# Altium schematic symbol library STM32_PLC.SCHLIB: 189 symbols (part 2 of 4)
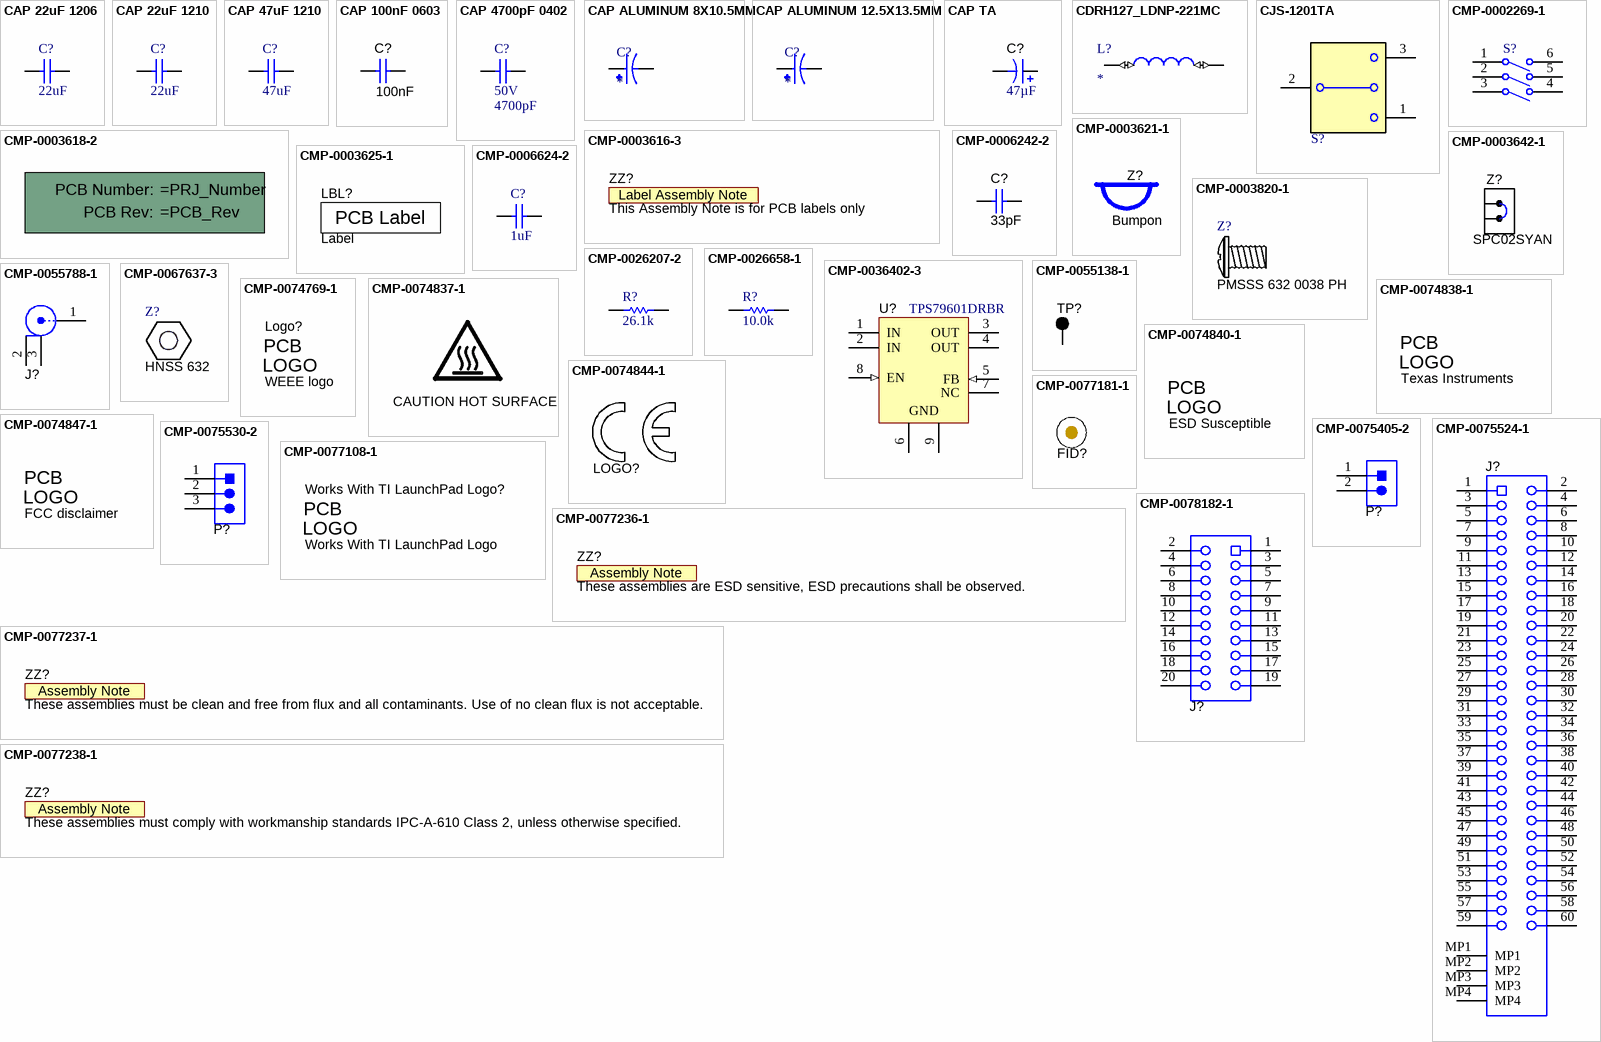
[diagram p6: symbols CAP 22uF 1206 to CMP-0078182-1]

## CMP-0006242-2
designator C?, comment ValueDisplayed: 33pF  (hidden comment: C0402C330J5GAC)
CAP, CERM, 33 pF, 50 V, +/- 5%, C0G/NP0, 0402; Manufacturer: Kemet; TaMin_C: -55°C; Polarized: N; SizeAreaWB_mm2: 3; Value1: Unknown; U/M: EA; Value: 33pF; TaMax_C: 125°C; SizeZ_mm: 0.6; SizeX_mm: 1; SizeY_mm: 0.5; Cap_Case: 0402; Value2: 50V; CompType: Capacitor; AEC Category: Q200; Supplier Part Number 2: 3019196; Publisher: Texas Instruments; Supplier 2: Farnell; TempCo: C0G/NP0; Published: 2008-06-19; RoHS: Y; MountType: SMT; Supplier 1: Digi-Key; PackageReference: 0402; Tolerance_%: 5%; SizeArea_mm2: 0.5; LatestRevisionDate: 2017-03-09; PartNumber: C0402C330J5GAC; AEC Qualified: ?; Cap_F: 33pF; VDC_V: 50V; ComponentLink1Description: Datasheet link; Supplier Part Number 1: 399-1017-1-ND; Technology: Ceramic; ComponentLink1URL: http://www.kemet.com/kemet/web/homepage/kechome.nsf/vapubfiles/F3102_Y5V.pdf/$file/F3102_Y5V.pdf
footprint 0402 (0402 from SM-752 data)
footprint 0402S (Based on C0402S footprint from PADS legacy)
footprint 0402L (0402 from SM-752 data)
footprint 0402M (0402 from SM-752 data)
pins: 1, 2

## CMP-0006624-2
designator C?, comment ValueDisplayed: 1uF  (hidden comment: GRM155R70J105MA12D)
CAP, CERM, 1 uF, 6.3 V, +/- 20%, X7R, 0402; Manufacturer: MuRata; TaMin_C: -55°C; Polarized: N; SizeAreaWB_mm2: 3; Value1: Unknown; U/M: EA; Value: 1uF; TaMax_C: 125°C; SizeZ_mm: 0.6; SizeX_mm: 1; SizeY_mm: 0.5; Cap_Case: 0402; Value2: 6.3V; CompType: Capacitor; Cap_F: 1µF; AEC Category: Q200; Supplier Part Number 2: 81-GRM155R70J105MA2D; Publisher: Texas Instruments; Supplier 2: Mouser; TempCo: X7R; Published: 2008-06-19; RoHS: Y; MountType: SMT; Supplier 1: Digi-Key; PackageReference: 0402; Tolerance_%: 20%; SizeArea_mm2: 0.5; LatestRevisionDate: 2017-03-09; PartNumber: GRM155R70J105MA12D; AEC Qualified: N; VDC_V: 6.3V; ComponentLink1Description: Datasheet link; AEC Grade: N/A; Supplier Part Number 1: 490-9665-1-ND; Technology: Ceramic; ComponentLink1URL: http://psearch.en.murata.com/capacitor/product/GRM155R70J105MA12%23.pdf
footprint 0402 (0402 from SM-752 data)
footprint 0402S (Based on C0402S footprint from PADS legacy)
footprint 0402L (0402 from SM-752 data)
footprint 0402M (0402 from SM-752 data)
pins: 1, 2

## CMP-0026207-2
designator R?, comment ValueDisplayed: 26.1k  (hidden comment: CRCW040226K1FKED)
RES, 26.1 k, 1%, 0.063 W, AEC-Q200 Grade 0, 0402; Manufacturer: Vishay-Dale; Power_W: 63mW; TempCo: 100 ppm/C; Value_Code: 26k1; Value: 26.1k; EIA_Code: E96; SizeX_mm: 1; SizeY_mm: 0.5; SizeZ_mm: 0.6; Value2: 0.063W; CompType: Resistor; AEC Qualified: Y; VDC_V: 50V; AEC Category: Q200; AEC Grade: 0; ComponentLink1URL: http://www.vishay.com/docs/20035/dcrcwe3.pdf; Supplier Part Number 2: 52K6896; Supplier 2: Newark; Supplier Part Number 3: 71-CRCW0402-26.1K-E3; Supplier 3: Mouser; RoHS: E; Value1: 1%; MountType: SMT; Supplier 1: Digi-Key; PackageReference: 0402; Tolerance_%: 1%; Res_ohm: 26.1k; SizeArea_mm2: 0.5; PartNumber: CRCW040226K1FKED; ComponentLink1Description: Datasheet link; Supplier Part Number 1: 541-26.1KLCT-ND; Technology: Thick Film
footprint 0402 (0402 from SM-752 data)
footprint 0402S (Based on C0402S footprint from PADS legacy)
footprint 0402L (0402 from SM-752 data)
footprint 0402M (0402 from SM-752 data)
pins: 1, 2

## CMP-0026658-1
designator R?, comment ValueDisplayed: 10.0k  (hidden comment: ERJ-2RKF1002X)
RES, 10.0 k, 1%, 0.1 W, 0402; Manufacturer: Panasonic; Power_W: 100mW; TempCo: 100 ppm/C; Value_Code: 10k0; U/M: EA; Value: 10.0k; EIA_Code: E96; Res_ohm: 10k; SizeX_mm: 1; SizeY_mm: 0.5; SizeZ_mm: 0.6; Value2: 0.1W; CompType: Resistor; VDC_V: 50V; AEC Category: Q200; ComponentLink1URL: http://industrial.panasonic.com/www-data/pdf/AOA0000/AOA0000CE2.pdf; Supplier Part Number 2: 90W2949; Publisher: Texas Instruments; Supplier 2: Newark; Supplier Part Number 3: 667-ERJ-2RKF1002X; Supplier 3: Mouser; Published: 2008-06-26; RoHS: Y; Value1: 1%; MountType: SMT; Supplier 1: Digi-Key; PackageReference: 0402; Tolerance_%: 1%; SizeArea_mm2: 0.5; LatestRevisionDate: 2017-03-09; PartNumber: ERJ-2RKF1002X; AEC Qualified: ?; ComponentLink1Description: Datasheet link; Supplier Part Number 1: P10.0KLCT-ND; Technology: Thick Film
footprint 0402 (0402 from SM-752 data)
footprint 0402S (Based on C0402S footprint from PADS legacy)
footprint 0402L (0402 from SM-752 data)
footprint 0402M (0402 from SM-752 data)
pins: 1, 2

## CMP-0036402-3
designator U?, comment TPS79601DRBR
Single Output High PSRR LDO, 1 A, Adjustable 1.2 to 5.5 V Output, 2.7 to 5.5 V Input, 8-pin SON (DRB), -40 to 125 degC, Green (RoHS & no Sb/Br); Manufacturer: Texas Instruments; Vin(Min)(V): 2.7; Vout Adj(Max)(V): 5.5; Vout Adj(Min)(V): 1.2; Accuracy(%): 2; SubFamily: Single Channel LDO; Iq(Typ)(mA): 0.26; Vdo(Typ)(mV): 250; Iout(Max)(A): 1; AEC Category: Q200; AEC Qualified: N; CompType: IC; SizeArea_mm2: 9.0; SizeAreaWB_mm2: 16.0; SizeX_mm: 3.0; SizeZ_mm: 1.0; ComponentLink1URL: http://www.ti.com/; Vin(Max)(V): 5.5; PackageDescription: VSON-8; ComponentLink2URL: http://www.ti.com/general/docs/lit/getliterature.tsp?genericPartNumber=TPS79601&fileType=pdf; ComponentLink3Description: Package Specification; Eco-Plan: Green (RoHS & no Sb/Br); ComponentLink2Description: Datasheet; ComponentLink3URL: http://www.ti.com/litv/pdf/mpds118h; PackageReference: DRB0008B; DatasheetVersion: SLVS351N; PartNumber: TPS79601DRBR; PackageVersion: 4203482-2/K; ComponentLink1Description: Manufacturer URL; MountType: SMT; RoHS: Y; SizeY_mm: 3.0
footprint DRB0008B (SON, 8-Leads, Body 3x3mm, Pitch 0.65mm, Thermal Pad 2.4x1.65mm, TI Recommended)
pins: 1 IN (power) "Unregulated input to the device.", 2 IN (power) "Unregulated input to the device.", 3 OUT (power) "Output of the regulator.", 4 OUT (power) "Output of the regulator.", 5 FB (in) "This terminal is the feedback input voltage for the adjustable device.", 6 GND (power) "Regulator ground", 7 NC, 8 EN (in) "Driving the enable pin (EN) high turns on the regulator. Driving this pin low puts the regulator into shutdown mode. EN can be connected to IN if not used.", 9 GND (power) "Regulator ground"

## CMP-0055138-1
designator TP?, comment 5001  (value not drawn)
Test Point, Miniature, Black, TH; Manufacturer: Keystone; CNHeader: FALSE; Green_Lifecycle: Active; Green_REACh: Passed; ContactFinish: Silver; CT: TRUE; ComponentLink1URL: http://www.keyelco.com/userAssets/file/M60-2p60.pdf; Supplier Part Number 2: 534-5001; Publisher: Texas Instruments; Supplier 2: Mouser; Color: Black; RoHS: Y; MountType: TH; Green_EU RoHS-2: Incomplete; Supplier 1: Digi-Key; Green_EU RoHS: Passed; PackageReference: Black Miniature Testpoint; CompType: Test Point; LatestRevisionDate: 26/05/2017; PartNumber: 5001; ComponentLink1Description: Datasheet URL; Supplier Part Number 1: 36-5001-ND
footprint Keystone5001 (For Keystone 500x miniature loop terminals)
pins: 1

## CMP-0055788-1
designator J?, comment 128-0711-201  (value not drawn)
UMC Straight Jack Receptacle, 50 Ohm, Gold, SMT; Manufacturer: Cinch Connectivity; CNHeader: FALSE; Gender: Female; ComponentLink1URL: https://cinchconnectivity.com/OA_MEDIA/catalog/pdf_UMCCatalogcatalog.pdf; Supplier Part Number 2: 99M0460; Publisher: Texas Instruments; Supplier 2: Newark; Supplier Part Number 3: 530-1280711201; Supplier 3: Mouser; RoHS: Y; MountType: SMT; Supplier 1: Digi-Key; PackageReference: UMC Straight Jack Receptacle, SMT; PinCount: 3; CompType: Jack; LatestRevisionDate: 26/05/2017; PartNumber: 128-0711-201; Orientation: Vertical; ComponentLink1Description: Datasheet URL; Supplier Part Number 1: J983CT-ND; ContactFinish: Gold; CT: FALSE
footprint Johnson_128-0711-201 (UMC Straight Jack Receptacle, 50 Ohm, SMT)
pins: 1, 2, 3

## CMP-0067637-3
designator Z?, comment HNSS 632  (mechanical)
Nut, Hex, 5/16", Stainless Steel, 6-32; Manufacturer: B&F Fastener Supply; ComponentLink1URL: http://www.fasnetdirect.com/refguide/Nutshexmachine.pdf; Supplier 1: Digi-Key; CompType: Nut; PackageReference: Hex Nut; RoHS: Y; Supplier Part Number 1: H725-ND; MountType: N/A; PartNumber: HNSS 632; ComponentLink1Description: Datasheet Link
footprint B-F_HNSS-632 (Hex nut)

## CMP-0074769-1
designator Logo?, comment WEEE logo  (no BOM)
Library Reference: WEEE logo; Lib Reference: WEEE logo; PartNumber: WEEE logo
footprint WEEE_Minimum (WEEElie bin)
text: PCB; LOGO

## CMP-0074837-1
designator CAUTION HOT SURFACE?, comment CAUTION HOT SURFACE  (no BOM)
IEC 61010-1 Hot Surface Warning; Library Reference: IEC_HotSurface; SymbolCreator: a0412235; Publisher: Texas Instruments; SymbolVersion: 2011-08-22; Published: 2009-03-03; Lib Reference: IEC_HotSurface; LatestRevisionDate: 2017-07-06; PartNumber: CAUTION HOT SURFACE
footprint IEC_HotSurface_Large
footprint IEC_HotSurface_Small
footprint IEC_HotSurface_Medium

## CMP-0074838-1
designator Logo?, comment Texas Instruments  (no BOM)
Texas Instrument Corporate Signature; SymbolCreator: a0412235; Lib Reference: TI_Logo; Library Reference: Logo; SymbolVersion: 2011-08-22; Published: 2009-03-03; Publisher: Texas Instruments; ClassName: Logo; LatestRevisionDate: 2017-07-06; PartNumber: Texas Instruments
footprint TI_Horizontal_Overlay_Medium
footprint TI_Horizontal_Overlay_Small
footprint TI_Stacked_SolderMask_Small
footprint TI_Stacked_SolderMask_Small_Vertical
footprint TI_Symbol_Overlay_Medium
footprint TI_Symbol_Overlay_Small
footprint TI_Symbol_SolderMask_Medium
footprint TI_Symbol_SolderMask_Small
footprint TI_Horizontal_SolderMask_Medium
footprint TI_Horizontal_SolderMask_Small
footprint TI_Stacked_Overlay_Medium
footprint TI_Stacked_Overlay_Medium_Vertical
footprint TI_Stacked_Overlay_Small
footprint TI_Stacked_Overlay_Small_Vertical
footprint TI_Stacked_SolderMask_Medium
footprint TI_Stacked_SolderMask_Medium_Vertical
text: PCB; LOGO

## CMP-0074840-1
designator ESD Susceptible?, comment ESD Susceptible  (no BOM)
ESD Susceptible Symbol; Library Reference: Logo; SymbolCreator: a0412235; Lib Reference: ESD_Susceptible; Publisher: Texas Instruments; SymbolVersion: 2011-08-22; Published: 2009-03-03; LatestRevisionDate: 2017-07-06; PartNumber: ESD Susceptible
footprint ESD_Overlay_Large
footprint ESD_Overlay_Small
footprint ESD_Overlay_Medium
text: PCB; LOGO

## CMP-0074844-1
designator LOGO?, comment CE Mark  (value not drawn)  (no BOM)
SymbolCreator: a0412235; Published: 2009-03-03; Publisher: Texas Instruments; LatestRevisionDate: 2017-07-06; Lib Reference: CE Mark; PartNumber: CE Mark; Library Reference: CE Mark
footprint CE_Mark_5mm (Minimum text height for CE Mark)
footprint CE_Mark_10mm (Double the minimum text height for CE Mark)

## CMP-0074847-1
designator Logo?, comment FCC disclaimer  (no BOM)
FCC_disclaimer; Library Reference: Logo; Published: 2009-03-03; Publisher: Texas Instruments; LatestRevisionDate: 2017-07-06; Lib Reference: FCC_disclaimer; PartNumber: FCC disclaimer
footprint FCC_disclaimer
footprint FCC_disclaimer_stacked
text: PCB; LOGO

## CMP-0075405-2
designator P?, comment TSW-102-07-G-S  (value not drawn)
Header, 100mil, 2x1, Gold, TH; Manufacturer: Samtec; Pitch_mm: 2.54; Cert_VDE: N; Gender: Male; Cert_CSA: Y; Voltage_V: 550V; Green_REACh: Passed; Current_A: 6.3A; Green_Lifecycle: Active; Row_Count: 1; ComponentLink1Description: Datasheet URL; RoHS: Y; Supplier 1: Digi-Key; Cert_UL: Y; Orientation: Vertical; Green_EU RoHS: Passed; PackageReference: 2x1 Header; Color: Black; PartNumber: TSW-102-07-G-S; PinCount: 2; ContactFinish: Gold; Cert_CULUS: N; Shrouded: N; ClassName: Header; ComponentLink1URL: http://samtec.com/ftppub/pdf/TSW_TH.PDF; CompType: Header; MountType: TH; Supplier Part Number 1: SAM1029-02-ND; Green_EU RoHS-2: Passed
footprint TSW-102-07-G-S (Samtec 100mil, 1x2, 230 mil above insulator)
pins: 1, 2
1 alternate drawing of the same symbol

## CMP-0075524-1
designator J?, comment QSH-030-01-L-D-A  (value not drawn)
Receptacle, 0.5 mm, 30x2, Gold, TH; Manufacturer: Samtec; Pitch_mm: 0.5; Gender: Female; Green_REACh: Passed; CT: False; Shrouded: N; RowSpacing_mm: 5.73; Green_Lifecycle: Active; Row_Count: 2; ComponentLink1Description: Datasheet URL; RoHS: Y; Supplier Part Number 3: 1667876; Supplier 1: Digi-Key; Orientation: Vertical; Green_EU RoHS: Passed with Exemption; PackageReference: Receptacle, 0.5 mm, 30x2, TH; Color: Black; PartNumber: QSH-030-01-L-D-A; PinCount: 60; Publisher: Texas Instruments; Supplier Part Number 2: 19M9181; ContactFinish: Gold; Supplier 2: Newark; ComponentLink1URL: http://www.samtec.com/ftppub/cpdf/QSH-XXX-01-X-D-XX-MKT.pdf; LatestRevisionDate: 2017-07-12; CompType: Receptacle; CNHeader: False; MountType: SMT; Supplier Part Number 1: SAM8180-ND; Supplier 3: Farnell; Green_EU RoHS-2: Passed
footprint Samtec_QSH-030-01-X-D-A (Receptacle, 0.5 mm, 30x2, TH)
pins: 1, 2, 3, 4, 5, 6, 7, 8, 9, 10, 11, 12, 13, 14, 15, 16, 17, 18, 19, 20, 21, 22, 23, 24, 25, 26, 27, 28, 29, 30, 31, 32, 33, 34, 35, 36, 37, 38, 39, 40, 41, 42, 43, 44, 45, 46, 47, 48, 49, 50, 51, 52, 53, 54, 55, 56, 57, 58, 59, 60, MP1, MP2, MP3, MP4

## CMP-0075530-2
designator P?, comment TSW-103-07-T-S  (value not drawn)
Header, 2.54 mm, 3x1, Tin, TH; Manufacturer: Samtec; Pitch_mm: 2.54; Cert_VDE: N; Gender: Male; Cert_CSA: Y; Voltage_V: 550V; Green_REACh: Passed; Current_A: 6.3A; Green_Lifecycle: Active; Row_Count: 1; ComponentLink1Description: Datasheet URL; RoHS: Y; Supplier Part Number 3: 2035682; Supplier 1: Digi-Key; Cert_UL: Y; Orientation: Vertical; Green_EU RoHS: Passed; PackageReference: Header, 2.54 mm, 3x1, TH; Color: Black; PartNumber: TSW-103-07-T-S; PinCount: 3; Supplier Part Number 2: 12P1325; ContactFinish: Tin; Supplier 2: Newark; Cert_CULUS: N; Shrouded: N; ClassName: Header; ComponentLink1URL: http://www.samtec.com/ftppub/cpdf/TSW-XXX-XX-XXX-X-XX-XXX-MKT.pdf; CompType: Header; MountType: TH; Supplier Part Number 1: SAM1035-03-ND; Supplier 3: Farnell; Green_EU RoHS-2: Passed
footprint Samtec_TSW-103-07-T-S (Header, 2.54 mm, 3x1, TH)
pins: 1, 2, 3
3 alternate drawings of the same symbol

## CMP-0077108-1
designator Works With TI LaunchPad Logo?, comment Works With TI LaunchPad Logo  (graphical)
Publisher: Texas Instruments; LatestRevisionDate: 2017-07-28; Lib Reference: Works With TI LaunchPad; Library Reference: Logo; Published: 2009-03-03
footprint WorksWithTILaunchPad (Works With TI LaunchPad Logo)
text: PCB; LOGO

## CMP-0077181-1
designator FID?, comment Fiducial  (value not drawn)
Fiducial mark.  There is nothing to buy or mount.; CompType: Fiducial; Manufacturer: N/A; MountType: N/A; PackageReference: N/A; PartNumber: N/A; ClassName: FiducialMark; Library Reference: Fiducial
footprint Fiducial10-30
footprint Fiducial15-30
footprint Fiducial10-20
footprint Fiducial20-40
footprint Fiducial6.4-20

## CMP-0077236-1
designator ZZ?, comment These assemblies are ESD sensitive, ESD precautions shall be observed.  (no BOM)
CompType: AssemblyNote; ClassName: AssemblyNote; Publisher: Texas Instruments; LatestRevisionDate: 2017-08-10; Key: AssemblyNote
footprint AssemblyNote (Assembly Note)
text: Assembly Note

## CMP-0077237-1
designator ZZ?, comment These assemblies must be clean and free from flux and all contaminants. Use of no clean flux is not acceptable.  (no BOM)
CompType: AssemblyNote; ClassName: AssemblyNote; Publisher: Texas Instruments; LatestRevisionDate: 2017-08-10; Key: AssemblyNote
footprint AssemblyNote (Assembly Note)
text: Assembly Note

## CMP-0077238-1
designator ZZ?, comment These assemblies must comply with workmanship standards IPC-A-610 Class 2, unless otherwise specified.  (no BOM)
CompType: AssemblyNote; ClassName: AssemblyNote; Publisher: Texas Instruments; LatestRevisionDate: 2017-08-10; Key: AssemblyNote
footprint AssemblyNote (Assembly Note)
text: Assembly Note

## CMP-0078182-1
designator J?, comment SSM-110-S-DV  (value not drawn)
Receptacle, 2.54mm, 10x2, Gold with Tin tail, SMT; Manufacturer: Samtec; Pitch_mm: 2.54; Gender: Female; Cert_CSA: Y; Voltage_V: 405V; Current_A: 5.2A; Row_Count: 2; CompType: Socket Strip; ComponentLink1Description: Datasheet URL; RoHS: Y; Supplier 1: Digi-Key; Cert_UL: Y; Orientation: Vertical; PackageReference: Receptacle, 2.54mm, 10x2, SMT; Color: Black; PartNumber: SSM-110-S-DV; PinCount: 20; Supplier Part Number 2: 66H7361; ContactFinish: Gold; Supplier 2: Newark; RowSpacing_mm: 2.54; ComponentLink1URL: http://suddendocs.samtec.com/catalog_english/ssm_sm.pdf; MountType: SMT; Supplier Part Number 1: SAM1150-10-ND
footprint Samtec_SSM-110-x-DV (Receptacle, 2.54mm, 10x2, SMT)
pins: 1, 2, 3, 4, 5, 6, 7, 8, 9, 10, 11, 12, 13, 14, 15, 16, 17, 18, 19, 20

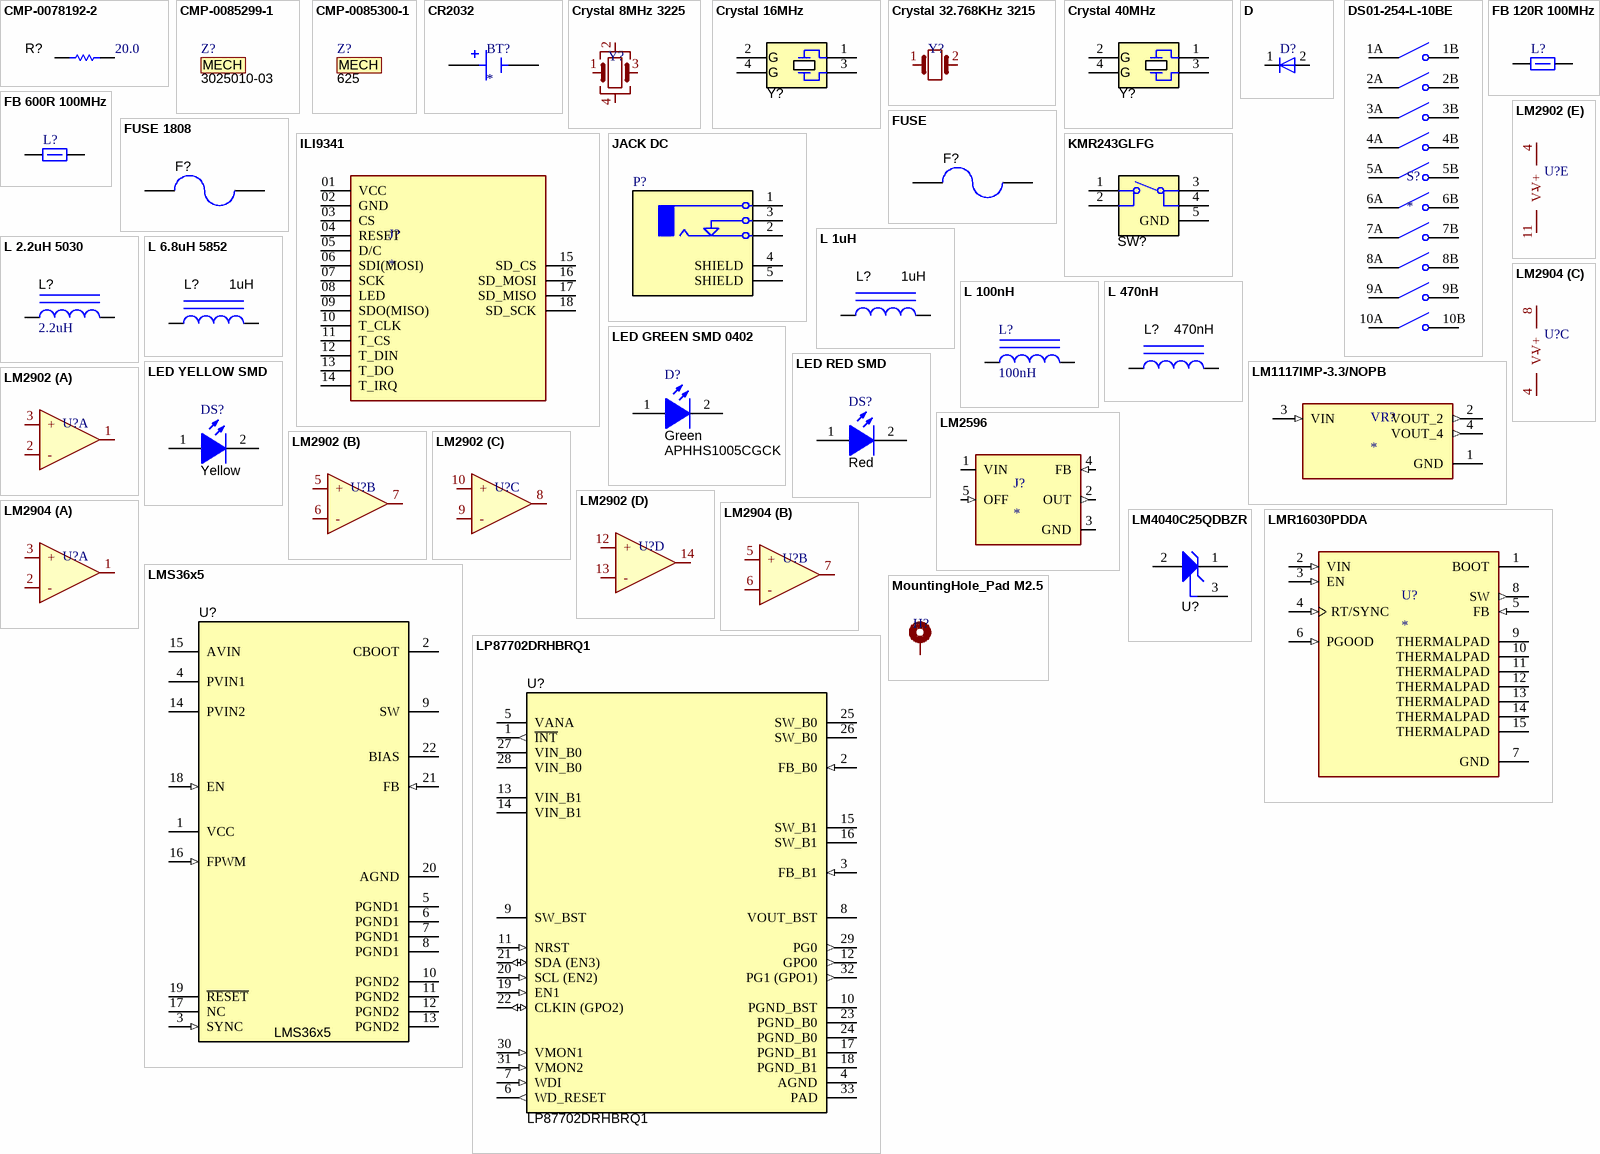
[diagram p2: symbols CMP-0078192-2 to MountingHole_Pad M2.5]

## CMP-0078192-2
designator R?, comment ValueDisplayed: 20.0  (hidden comment: CRCW020120R0FNED)
RES, 20.0, 1%, 0.05 W, 0201; Manufacturer: Vishay-Dale; Value_Code: 20R0; SizeArea_mm2: 0.18; AEC Qualified: N; AEC Category: Q200; Res_ohm: 20; Value: 20.0; SizeZ_mm: 0.33; EIA_Code: E96; TempCo: 200 ppm/C; Power_W: 50mW; VDC_V: 30V; SizeY_mm: 0.3; Value2: 0.05W; CompType: Resistor; SizeX_mm: 0.6; ComponentLink1Description: Datasheet link; RoHS: E; Supplier Part Number 3: 71-CRCW020120R0FNED; Tolerance_%: 1%; Supplier 1: Digi-Key; PackageReference: 0201; Technology: Thick Film; PartNumber: CRCW020120R0FNED; Supplier Part Number 2: 87W8830; Supplier 2: Newark; AEC Grade: N/A; ComponentLink1URL: http://www.vishay.com/docs/20052/crcw0201e3.pdf; Value1: 1%; MountType: SMT; Supplier Part Number 1: 541-2947-1-ND; Supplier 3: Mouser
footprint 0201_033 (SMD, 2-Leads, Height 0.33mm)
footprint 0201_033M (0201)
footprint 0201_033L (0201)
pins: 1, 2

## CMP-0085299-1
designator Z?, comment 3025010-03  (mechanical)
Cable, USB A Male to Micro B Male 3'; Manufacturer: Qualtek Electronics Corporation; RoHS: Y; PartNumber: 3025010-03; MountType: N/A; ComponentLink1URL: http://www.qualtekusa.com/images/Cable%20Assemblies/PDF_2/3025010-03.pdf; ComponentLink1Description: Datasheet Link; CompType: Cable
text: MECH

## CMP-0085300-1
designator Z?, comment 625  (mechanical)
Aluminum Mounting Bracket; Manufacturer: Keystone; ComponentLink1URL: https://media.digikey.com/pdf/Data%20Sheets/Keystone%20Electronics%20PDFs/ClearHoleMountingBrackets.pdf; RoHS: Y; PartNumber: 625; ComponentLink1Description: Datasheet Link; MountType: N/A; CompType: Bracket
text: MECH

## CR2032
designator BT?
THM (Vertical) Holder for 20mm Cel; MF: Keystone Electronics; MP: 1074; SnapEDA_Link: https://www.snapeda.com/parts/1074/Keystone/view-part/?ref=snap; Package: None; Value: *; Check_prices: https://www.snapeda.com/parts/1074/Keystone/view-part/?ref=eda
footprint BAT_1074
pins: N NEG, P_1 POS, P_2 POS

## Crystal 8MHz 3225
designator Y?  (value not drawn)
footprint Crystal_SMD_3225-4Pin_3.2x2.5mm_HandSoldering
pins: 1, 2, 3, 4

## Crystal 16MHz
designator Y?, comment NX3225SA-16.000M-STD-CRS-2  (value not drawn)
Crystal, 16 MHz, 15 ppm, 8 pF, AEC-Q200 Grade 1, SMD; Manufacturer: NDK; TaMin_C: -40°C; Frequency Tolerance: 10 ppm; Frequency Stability: 150 ppm; Load Capacitance: 7.36 pF; Frequency_Fixed: 16MHz; TaMax_C: 125°C; AEC Qualified: N; AEC Grade: 1; AEC Category: Q200; ComponentLink1URL: http://www.ndk.com/images/products/catalog/c_NX3225SA-STD-CRS-2_e.pdf; RoHS: Y; MountType: SMT; Supplier 1: Digi-Key; PackageReference: 3.2x0.55x2.5mm; CompType: Crystal; PartNumber: NX3225SA-16.000M-STD-CRS-2; ComponentLink1Description: Datasheet Link; Supplier Part Number 1: 644-1129-1-ND
footprint NDK_NX3225SA (NDK)
pins: 1, 2 GND (power), 3, 4 GND (power)
text: G

## Crystal 32.768KHz 3215
designator Y?  (value not drawn)
footprint Crystal_SMD_EuroQuartz_EQ161-2Pin_3.2x1.5mm_HandSoldering
pins: 1, 2

## Crystal 40MHz
designator Y?, comment CX3225SA40000D0PTWCC  (value not drawn)
Crystal, 40 MHz, 8pF, SMD; Manufacturer: Kyocera; TaMin_C: -40°C; Frequency Stability: +/-200ppm; SizeAreaWB_mm2: 14.7; Frequency_Fixed: 40MHz; TaMax_C: 125°C; SizeZ_mm: 0.8; SizeX_mm: 2.5; SizeY_mm: 3.2; SizeArea_mm2: 8; RoHS: Y; MountType: SMT; Supplier 1: Mouser; PackageReference: 3.2x2.5mm; CompType: Crystal; PartNumber: CX3225SA40000D0PTWCC; ComponentLink1Description: Datasheet Link; Supplier Part Number 1: 581-CX3225SA40D0PTWC; ComponentLink1URL: http://www.kyocera-crystal.jp/eng/wp-content/uploads/2016/10/cx3225sa_e.pdf
footprint Kyocera_CX3225SA (SMD, 4-Leads, Body 3.2x2.5mm)
pins: 1, 2 GND (power), 3, 4 GND (power)
text: G

## D
designator D?  (value not drawn)
footprint D_SMA
pins: 1 K, 2 A

## DS01-254-L-10BE
designator S?
10 Position, Through Hole, 2.54 mm Pitch, Raised Slide Actuator, Flat Bottom, Long Pin, DIP Switch; MF: Same Sky; MP: DS01-254-L-10BE; SnapEDA_Link: https://www.snapeda.com/parts/DS01-254-L-10BE/Same+Sky/view-part/?ref=snap; Package: None; Value: *; Check_prices: https://www.snapeda.com/parts/DS01-254-L-10BE/Same+Sky/view-part/?ref=eda
footprint SW_DS01-254-L-10BE
pins: 1A COM1, 1B NO1, 2A COM2, 2B NO2, 3A COM3, 3B NO3, 4A COM4, 4B NO4, 5A COM5, 5B NO5, 6A COM6, 6B NO6, 7A COM7, 7B NO7, 8A COM8, 8B NO8, 9A COM9, 9B NO9, 10A COM10, 10B NO10

## FB 120R 100MHz
designator L?, comment BLM18KG121TH1D  (value not drawn)
Ferrite Bead, 120 ohm @ 100 MHz, 1.9 A, 0603; Manufacturer: MuRata; ZTyp@100MHz_Ohm: 120; SizeAreaWB_mm2: 4.68; DCR_ohm: 0.04; Value1: 0.04 ohm; Value: 120 ohm; Imax_A: 1.9A; SizeZ_mm: 1.0; SizeX_mm: 1.6; SizeY_mm: 0.8; SizeArea_mm2: 1.28; ComponentLink1URL: http://www.murata.com/en-global/products/productdata/8796737273886/QNFA9101.pdf; Supplier Part Number 2: 81-BLM18KG121TH1D; Supplier 2: Mouser; RoHS: Y; MountType: SMT; Supplier 1: Digi-Key; PackageReference: 0603; Value2: 1.9A; CompType: Ferrite Bead; PartNumber: BLM18KG121TH1D; ComponentLink1Description: Datasheet link; Supplier Part Number 1: 490-13261-1-ND; ValueDisplayed: 120 ohm
footprint 0603 (0603 from SM-752 data)
footprint 0603_HV (Ernesto recommended land pattern.  26 mil between pads.)
footprint 0603L (0603 from SM-752 data)
footprint 0603S
footprint 0603M (0603 from SM-752 data)
pins: 1, 2

## FB 600R 100MHz
designator L?, comment HI2220P601R-10  (value not drawn)
Ferrite Bead, 600 ohm @ 100 MHz, 4 A, 2220; Manufacturer: Laird-Signal Integrity Products; Ztyp@1GHz_Ohm: 106; ZTyp@100MHz_Ohm: 600; SizeAreaWB_mm2: 53.96; DCR_ohm: 0.025; Value1: 0.025 ohm; Value: 600 ohm; Imax_A: 4A; SizeZ_mm: 3.45; SizeX_mm: 5.6; SizeY_mm: 5.1; SizeArea_mm2: 28.56; ComponentLink1URL: https://assets.lairdtech.com/home/brandworld/files/HI2220P601R-10.pdf; Supplier Part Number 2: 875-HI2220P601R-10; Publisher: Texas Instruments; Supplier 2: Mouser; Published: 2014-04-30; RoHS: Y; MountType: SMT; Supplier 1: Digi-Key; PackageReference: 2220; Value2: 4A; CompType: Ferrite Bead; LatestRevisionDate: 2017-03-09; PartNumber: HI2220P601R-10; ComponentLink1Description: Datasheet link; Supplier Part Number 1: 240-2427-1-ND; ValueDisplayed: 600 ohm
footprint 2220_345 (Wurth recommended land pattern)
pins: 1, 2

## FUSE
designator F?, comment 0440005.WR  (value not drawn)
Fuse, 5 A, 32VAC/VDC, SMD; Manufacturer: Littelfuse; Irating_A: 5A; SizeAreaWB_mm2: 10.92; Interrupt_AC: 50A; VAC_V: 32V; SizeZ_mm: 1.35; SizeX_mm: 3.2; SizeY_mm: 1.6; SizeArea_mm2: 5.12; Rtyp_Ohm: 0.012; MeltingTyp: 4.761; ComponentLink1URL: http://www.littelfuse.com/~/media/electronics/datasheets/fuses/littelfuse_fuse_440_datasheet.pdf.pdf; Supplier Part Number 2: 64R8013; Supplier 2: Newark; Supplier Part Number 3: 576-0440005.WR; Supplier 3: Mouser; RoHS: Y; MountType: SMT; Interrupt_DC: 50A; Supplier 1: Digi-Key; PackageReference: 1206; CompType: Fuse; PartNumber: 0440005.WR; VDC_V: 32V; ComponentLink1Description: Datasheet URL; Supplier Part Number 1: F1608CT-ND
footprint 1206 (1206 from SM-752 data)
footprint 1206L (1206 from SM-752 data)
footprint 1206M (1206 from SM-752 data)
pins: 1, 2

## FUSE 1808
designator F?, comment 0440005.WR  (value not drawn)
Fuse, 5 A, 32VAC/VDC, SMD; Manufacturer: Littelfuse; Irating_A: 5A; SizeAreaWB_mm2: 10.92; Interrupt_AC: 50A; VAC_V: 32V; SizeZ_mm: 1.35; SizeX_mm: 3.2; SizeY_mm: 1.6; SizeArea_mm2: 5.12; Rtyp_Ohm: 0.012; MeltingTyp: 4.761; ComponentLink1URL: http://www.littelfuse.com/~/media/electronics/datasheets/fuses/littelfuse_fuse_440_datasheet.pdf.pdf; Supplier Part Number 2: 64R8013; Supplier 2: Newark; Supplier Part Number 3: 576-0440005.WR; Supplier 3: Mouser; RoHS: Y; MountType: SMT; Interrupt_DC: 50A; Supplier 1: Digi-Key; PackageReference: 1206; CompType: Fuse; PartNumber: 0440005.WR; VDC_V: 32V; ComponentLink1Description: Datasheet URL; Supplier Part Number 1: F1608CT-ND
footprint CAPC4520X203N
pins: 1, 2

## ILI9341
designator J?
LCD 2.4inch 240x320; MF: Samtec Inc.; MP: TSW-108-07-L-S; Availability: Unavailable; Price: None; Package: None; Value: *
footprint ILI9341
pins: 01 VCC, 02 GND, 03 CS, 04 RESET, 05 D/C, 06 SDI(MOSI), 07 SCK, 08 LED, 09 SDO(MISO), 10 T_CLK, 11 T_CS, 12 T_DIN, 13 T_DO, 14 T_IRQ, 15 SD_CS, 16 SD_MOSI, 17 SD_MISO, 18 SD_SCK

## JACK DC
designator P?, comment PJ-051AH  (value not drawn)
DC Power Jack, R/A, TH; Manufacturer: CUI Inc.; Gender: Male; Cert_UL: Y; Current_A: 5A; Voltage_V: 24V; ComponentLink1Description: Datasheet URL; RoHS: Y; Supplier 1: Digi-Key; Orientation: R/A; PackageReference: DC Power Jack, R/A, TH; Color: Black; PartNumber: PJ-051AH; PinCount: 3; Supplier Part Number 2: 490-PJ-051AH; Supplier 2: Mouser; ComponentLink1URL: https://www.cui.com/product/resource/pj-051ah.pdf; CompType: Jack; Supplier Part Number 1: CP-051AH-ND; MountType: TH
footprint CUI_PJ-051AH (DC Power Jack, R/A, TH)
pins: 1 SLEEVE, 2 TIP, 3 TIP SWITCH, 4 SHIELD, 5 SHIELD

## KMR243GLFG
designator SW?  (value not drawn)
Switch, SPST-NO, Off-Mom, 0.01 A, 32 VDC, SMD; Manufacturer: C&K Components; CurrentRating_mA: 10A; PositionCount: 1; SizeX_mm: 4.6; SizeY_mm: 2.8; SizeZ_mm: 1.9; SizeArea_mm2: 12.88; VDC_V: 32V; SizeAreaWB_mm2: 21.28; Supplier 2: Mouser; Supplier 1: Digi-Key; Supplier Part Number 1: 401-1432-2-ND; Supplier Part Number 2: 611-KMR243GLFG; PartNumber: KMR243GLFG; ComponentLink1Description: Datasheet URL; LatestRevisionDate: 2017-03-09; ComponentLink1URL: http://www.ckswitches.com/media/1479/kmr2.pdf; CompType: Switch; Publisher: Texas Instruments; Circuit: SPST-NO; RoHS: Y; Orientation: Top Actuated; SwitchFunction: Off-Mom; PackageReference: 4.2x2.8mm; MountType: SMT
footprint SW_KMR243GLFG (SMD, 5-Leads, Body 4.2x2.8mm)
pins: 1, 2, 3, 4, 5 GND

## L 1uH
designator L?, comment ValueDisplayed: 1uH  (hidden comment: DFE252012PD-1R0M)
Inductor, Shielded, 1 uH, 3.8 A, 0.035 ohm, AEC-Q200 Grade 1, SMD; Manufacturer: MuRata Toko; Isat: 4.5A @ 30% inductance drop; Irms: 3.8A @ 40C rise; SizeAreaWB_mm2: 10.5; DCR_ohm: 0.035; Value: 1uH; Imax_A: 3.8A; SizeZ_mm: 1.2; SizeX_mm: 2.5; SizeY_mm: 2; SizeArea_mm2: 5; Ind_H: 1µH; AEC Qualified: Y; AEC Grade: 1; AEC Category: Q200; ComponentLink1URL: https://sps06.itg.ti.com/sites/KMS/crossdivteams/altium/docs/ComponentDatasheets/DFE252012PD_Catalouge_20140701 with AEC-Q200.pdf; Publisher: Texas Instruments; Published: 2008-06-26; RoHS: Y; Value1: 0.035 ohm; Material: ?; MountType: SMT; PackageReference: 1008; Value2: 3.8A; CompType: Inductor; LatestRevisionDate: 2017-06-02; PartNumber: DFE252012PD-1R0M; ComponentLink1Description: Datasheet link; Technology: Shielded
footprint DFE252012P (TOKO, Pad sizes increased as per request)
pins: 1, 2

## L 2.2uH 5030
designator L?, comment ValueDisplayed: 2.2uH  (hidden comment: XAL5030-222MEB)
Inductor, Shielded, Composite, 2.2 µH, 9.2 A, 0.01 ohm, AEC-Q200 Grade 1, SMD; Manufacturer: Coilcraft; Isat: 12.9A @ 30% inductance drop; Irms: 9.2A @ 40C rise; Green_Lifecycle: Not Set; SizeAreaWB_mm2: 54.4544; DCR_ohm: 0.01; Green_REACh: Incomplete; Value: 2.2uH; Imax_A: 9.2A; SizeZ_mm: 3.1; SizeX_mm: 5.28; SizeY_mm: 5.48; SizeArea_mm2: 28.9344; Ind_H: 2.2µH; AEC Qualified: 1; AEC Category: Q200; AEC Grade: Y; ComponentLink1URL: http://www.coilcraft.com/pdfs/XAL50xx_.pdf; RoHS: Y; Value1: 0.01 ohm; Material: Composite; MountType: SMT; Green_EU RoHS-2: Incomplete; Green_EU RoHS: Incomplete; PackageReference: 5.3x31.x5.5mm; Value2: 9.2A; CompType: Inductor; PartNumber: XAL5030-222MEB; ComponentLink1Description: Datasheet link; Technology: Shielded
footprint XAL5030 (Coilcraft XAL5030 12/12/11)
pins: 1, 2

## L 6.8uH 5852
designator L?, comment ValueDisplayed: 1uH  (hidden comment: DFE252012PD-1R0M)
Inductor, Shielded, 1 uH, 3.8 A, 0.035 ohm, AEC-Q200 Grade 1, SMD; Manufacturer: MuRata Toko; Isat: 4.5A @ 30% inductance drop; Irms: 3.8A @ 40C rise; SizeAreaWB_mm2: 10.5; DCR_ohm: 0.035; Value: 1uH; Imax_A: 3.8A; SizeZ_mm: 1.2; SizeX_mm: 2.5; SizeY_mm: 2; SizeArea_mm2: 5; Ind_H: 1µH; AEC Qualified: Y; AEC Grade: 1; AEC Category: Q200; ComponentLink1URL: https://sps06.itg.ti.com/sites/KMS/crossdivteams/altium/docs/ComponentDatasheets/DFE252012PD_Catalouge_20140701 with AEC-Q200.pdf; Publisher: Texas Instruments; Published: 2008-06-26; RoHS: Y; Value1: 0.035 ohm; Material: ?; MountType: SMT; PackageReference: 1008; Value2: 3.8A; CompType: Inductor; LatestRevisionDate: 2017-06-02; PartNumber: DFE252012PD-1R0M; ComponentLink1Description: Datasheet link; Technology: Shielded
footprint IND-SMD_L5.8-W5.2
pins: 1, 2

## L 100nH
designator L?, comment ValueDisplayed: 100nH  (hidden comment: NLCV32T-R10M-EFRD)
Inductor, Wirewound, Ferrite, 100 nH, 2.85 A, 0.024 ohm, AEC-Q200 Grade 1, SMD; Manufacturer: TDK; Isat: 2.85A @ 10% inductance drop; Irms: 2.85A @ 40C rise; SizeAreaWB_mm2: 13.44; DCR_ohm: 0.024; Value: 100nH; Imax_A: 2.85A; SizeZ_mm: 2.5; SizeX_mm: 3.2; SizeY_mm: 2.2; SizeArea_mm2: 7.04; AEC Qualified: Y; AEC Grade: 1; AEC Category: Q200; ComponentLink1URL: https://product.tdk.com/info/en/catalog/datasheets/inductor_automotive_decoupling_nlcv32-efrd_en.pdf; RoHS: Y; Value1: 0.024 ohm; Material: Ferrite; MountType: SMT; PackageReference: 3.2x2.2x2.5mm; Value2: 2.85A; CompType: Inductor; Ind_H: 100nH; PartNumber: NLCV32T-R10M-EFRD; ComponentLink1Description: Datasheet link; Technology: Wirewound
footprint NLCV32 (TDK)
pins: 1, 2

## L 470nH
designator L?, comment ValueDisplayed: 470nH  (hidden comment: DFE252012PD-R47M)
Inductor, Shielded, 470 nH, 4.7 A, 0.021 ohm, SMD; Manufacturer: MuRata Toko; Isat: 6.1A @ 30% inductance drop; Irms: 4.7A @ 40C rise; SizeAreaWB_mm2: 10.5; DCR_ohm: 0.021; Value: 470nH; Imax_A: 4.7A; SizeZ_mm: 1.2; SizeX_mm: 2.5; SizeY_mm: 2; SizeArea_mm2: 5; AEC Category: Q200; ComponentLink1URL: https://sps06.itg.ti.com/sites/KMS/crossdivteams/altium/docs/ComponentDatasheets/DFE252012PD_Catalouge_20140701 with AEC-Q200.pdf; Publisher: Texas Instruments; Published: 2008-06-26; RoHS: Y; Value1: 0.021 ohm; Material: ?; MountType: SMT; PackageReference: 1008; Value2: 4.7A; CompType: Inductor; Ind_H: 470nH; LatestRevisionDate: 2017-06-02; PartNumber: DFE252012PD-R47M; AEC Qualified: ?; ComponentLink1Description: Datasheet link; Technology: Shielded
footprint DFE252012P (TOKO, Pad sizes increased as per request)
pins: 1, 2

## LED GREEN SMD 0402
designator D?, comment APHHS1005CGCK  value Green
LED, Green, SMD; Manufacturer: Kingbright; Io_A: 20mA; Power_TotalModule: 75mW; SizeAreaWB_mm2: 3.0; Vr_V: 5V; Tjmax_C: 85°C; Value1: 0.075W; Angle: 120.0; SizeZ_mm: 0.6; SizeX_mm: 1.0; SizeY_mm: 0.5; Ir_A: 10µA; Vf_V: 2.1V; ComponentLink1URL: http://www.kingbrightusa.com/images/catalog/SPEC/APHHS1005CGCK.pdf; Color: Green; RoHS: Y; MountType: SMT; PackageReference: 0402; Value2: 2.1V; SizeArea_mm2: 0.5; CompType: LED; Type: ?; PartNumber: APHHS1005CGCK; ComponentLink1Description: Datasheet link
footprint APHHS1005_Green (SMD, 2-Leads, Body 1x0.5mm)
pins: 1 A, 2 K

## LED RED SMD
designator DS?, comment value Red  (hidden comment: LS L29K-G1J2-1-Z)
LED, Red, SMD; Manufacturer: OSRAM; Io_A: 20mA; Vr_V: 12V; Tjmax_C: 110°C; Value1: W; Angle: 160; Vf_V: 1.8V; ComponentLink1URL: http://www.osram-os.com/Graphics/XPic2/00077099_0.pdf; Color: Red; RoHS: Y; MountType: SMT; PackageReference: SMD, 2-Leads, Body 1.3x0.8mm; Value2: 1.8V; CompType: LED; Type: ?; PartNumber: LS L29K-G1J2-1-Z; ComponentLink1Description: Datasheet link
footprint LS L29K_Red (SMD, 2-Leads, Body 1.3x0.8mm)
pins: 1 A, 2 K

## LED YELLOW SMD
designator DS?, comment value Yellow  (hidden comment: SML-E12Y8WT86)
LED, Yellow, SMD; Manufacturer: Rohm; Io_A: 20mA; Power_TotalModule: 54mW; Vr_V: 5V; Tjmax_C: 85°C; Value1: 0.054W; Ir_A: 10µA; Vf_V: 2.2V; LuminousIntensity_IV: 63; Color: yellow; RoHS: Y; MountType: SMT; PackageReference: 1.6x0.8mm; Value2: 2.2V; CompType: LED; Type: ?; PartNumber: SML-E12Y8WT86; ComponentLink1Description: Datasheet link; ComponentLink1URL: http://rohmfs.rohm.com/en/products/databook/datasheet/opto/led/chip_mono/sml-e1.pdf
footprint SML-E1_Yellow (SMD, 2-Leads, Body 1.6x0.8mm)
pins: 1 A, 2 K

## LM1117IMP-3.3/NOPB
designator VR?
800-mA 15-V linear voltage regulator; MF: Texas Instruments; MP: LM1117IMP-3.3/NOPB; SnapEDA_Link: https://www.snapeda.com/parts/LM1117IMP-3.3/NOPB/Texas+Instruments/view-part/?ref=snap; Package: SOT-223-4 Texas Instruments; Value: *; Check_prices: https://www.snapeda.com/parts/LM1117IMP-3.3/NOPB/Texas+Instruments/view-part/?ref=eda
footprint VREG_LM1117IMP-3.3/NOPB
pins: 1 GND (power), 2 VOUT_2 (out), 3 VIN (in), 4 VOUT_4 (out)

## LM2596
designator J?
MF: Texas Instruments; MP: LM2596; SnapEDA_Link: https://www.snapeda.com/parts/LM2596/Texas+Instruments/view-part/?ref=snap; Package: Package; Value: *; Check_prices: https://www.snapeda.com/parts/LM2596/Texas+Instruments/view-part/?ref=eda
footprint TO263-5
pins: 1 VIN (power), 2 OUT (out), 3 GND (power), 4 FB (in), 5 OFF (in)

## LM2902
designator U?  (value not drawn)
footprint SOIC-14_3.9x8.7mm_P1.27mm
part A pins: 1, 2 -, 3 +
part B pins: 5 +, 6 -, 7
part C pins: 8, 9 -, 10 +
part D pins: 12 +, 13 -, 14
part E pins: 4 V+, 11 V-

## LM2904
designator U?  (value not drawn)
footprint SOIC-8_3.9x4.9mm_P1.27mm
part A pins: 1, 2 -, 3 +
part B pins: 5 +, 6 -, 7
part C pins: 4 V-, 8 V+

## LM4040C25QDBZR
designator U?  (value not drawn)
Precision Micropower Shunt Voltage Reference, 0.5% accuracy, 2.5 V, 15 ppm / degC, 15 mA, -40 to 125 degC, 3-pin SOT-23 (DBZ), Green (RoHS & no Sb/Br); Manufacturer: Texas Instruments; Initial Accuracy @ 25/deg C(%): 0.5; Temp Coeff(Typ)(ppm/ degree C): 15; Temp Coeff(Max)(ppm/ degree C): 100; Rating: Catalog; Min Iz for Regulation(uA): 75; VO(V): 2.5; PackageDescription: 3-Pin Plastic Small Outline, Body 2.92 x 1.3 mm, Pitch 0.95 mm; ComponentLink2Description: Datasheet; ComponentLink3Description: Package Specification; Mounting Technology: Surface Mount; Code_JEDEC: TO-236; ComponentLink1Description: Manufacturer URL; ComponentLink2URL: http://www.ti.com/general/docs/lit/getliterature.tsp?genericPartNumber=LM4040C25&fileType=pdf; PackageVersion: 4203227/B; ComponentLink1URL: http://www.ti.com/; SubFamily: Shunt Voltage Reference; ComponentLink3URL: http://www.ti.com/litv/pdf/mpds108a; PartNumber: LM4040C25QDBZR; Iout/Iz(Max)(mA): 15; Eco-Plan: Green (RoHS & no Sb/Br); DatasheetVersion: SLOS456K; PackageReference: DBZ0003A
footprint DBZ0003A_N (SOT23, 3-Leads, Body 2.9x1.3mm, Pitch 0.95mm, Lead Span 2.4mm, IPC Medium Density)
footprint DBZ0003A_M (SOT23, 3-Leads, Body 2.9x1.3mm, Pitch 0.95mm, Lead Span 2.4mm, IPC Low Density)
footprint DBZ0003A_L (SOT23, 3-Leads, Body 2.9x1.3mm, Pitch 0.95mm, Lead Span 2.4mm, IPC High Density)
pins: 1 CATHODE, 2 ANODE, 3 NC

## LMR16030PDDA
designator U?
SIMPLE SWITCHER 60V, 3A Step-Down Converter with 40uA Iq; MF: Texas Instruments; MP: LMR16030PDDA; SnapEDA_Link: https://www.snapeda.com/parts/LMR16030PDDA/Texas+Instruments/view-part/?ref=snap; Package: HSOIC-8 Texas Instruments; Value: *; Check_prices: https://www.snapeda.com/parts/LMR16030PDDA/Texas+Instruments/view-part/?ref=eda
footprint VREG_LMR16030PDDA
pins: 1 BOOT (power), 2 VIN (in), 3 EN (in), 4 RT/SYNC (in), 5 FB (in), 6 PGOOD (in), 7 GND (power), 8 SW (out), 9 THERMALPAD (power), 10 THERMALPAD (power), 11 THERMALPAD (power), 12 THERMALPAD (power), 13 THERMALPAD (power), 14 THERMALPAD (power), 15 THERMALPAD (power)

## LMS36x5
designator U?
2.5A, 36 V Synchronous, 2.1MHz, Automotive Step Down DC-DC Converter, RNL0022A (VQFN-HR-22); PartNumber: LM536253QRNLRQ1; Alternate PartNumber: LM536253QRNLTQ1; Manufacturer: Texas Instruments; SizeArea_mm2: 20.0; SizeAreaWB_mm2: 42.0; SizeX_mm: 4.0; SizeY_mm: 5.0; SizeZ_mm: 0.9; CompType: IC; AEC Category: Q200; AEC Qualified: Y; PackageReference: RNL0022A; PackageDescription: VQFN-HR-22; MountType: SMT; ComponentLink1Description: Datasheet Link; ComponentLink1URL: http://www.ti.com/lit/ds/symlink/lm53625-q1.pdf; RoHS: Y; Alternate Manufacturer: Texas Instruments; ComponentLink2Description: Product Folder; ComponentLink2URL: http://www.ti.com/product/lm53625-q1; ComponentLink3Description: Online Datasheet; ComponentLink3URL: http://www.ti.com/product/lm53625-q1/datasheet; Operating Temprature Range: -40 to 150 C; Rating: Automotive
footprint RNL0022A (VQFN-HR-22)
footprint RNL0022A_NV (VQFN-HR-22)
pins: 1 VCC (power), 2 CBOOT (power), 3 SYNC (in), 4 PVIN1 (power), 5 PGND1 (power), 6 PGND1 (power), 7 PGND1 (power), 8 PGND1 (power), 9 SW (power), 10 PGND2 (power), 11 PGND2 (power), 12 PGND2 (power), 13 PGND2 (power), 14 PVIN2 (power), 15 AVIN (power), 16 FPWM (in), 17 NC, 18 EN (in), 19 ~{RESET} (oc), 20 AGND (power), 21 FB (in), 22 BIAS (power)
1 alternate drawing of the same symbol

## LP87702DRHBRQ1
designator U?
Boost and Dual Buck Regulators With Diagnostic Functions, RHB0032N (VQFN-32); Manufacturer: Texas Instruments; SizeArea_mm2: 25; SizeAreaWB_mm2: 49; SizeX_mm: 5; SizeZ_mm: 0.9; CompType: IC; AEC Category: Q200; AEC Qualified: Y; PartNumber: LP87702DRHBRQ1; PackageReference: RHB0032N; PackageDescription: VQFN-32; MountType: SMT; SizeY_mm: 5; ComponentLink1Description: Datasheet Link; ComponentLink1URL: https://sps16.itg.ti.com/sites/KMS/crossdivteams/altium/docs/ComponentDatasheets/LP8770-Q1_SNVSAL1%20internal%208Sept2017.pdf; Alternate Manufacturer: Texas Instruments; ComponentLink2Description: Product Folder; ComponentLink2URL: TBD
footprint RHB0032N (QFN, 32-Leads, Body 5x5mm, Pitch 0.5mm, Thermal Pad 3.45x3.45mm)
pins: 1 ~{INT} (out), 2 FB_B0 (in), 3 FB_B1 (in), 4 AGND (power), 5 VANA (power), 6 WD_RESET (out), 7 WDI (in), 8 VOUT_BST (power), 9 SW_BST (power), 10 PGND_BST (power), 11 NRST (in), 12 GPO0 (out), 13 VIN_B1 (power), 14 VIN_B1 (power), 15 SW_B1 (power), 16 SW_B1 (power), 17 PGND_B1 (power), 18 PGND_B1 (power), 19 EN1 (in), 20 SCL (EN2) (in), 21 SDA (EN3) (io), 22 CLKIN (GPO2) (io), 23 PGND_B0 (power), 24 PGND_B0 (power), 25 SW_B0 (power), 26 SW_B0 (power), 27 VIN_B0 (power), 28 VIN_B0 (power), 29 PG0 (out), 30 VMON1 (in), 31 VMON2 (in), 32 PG1 (GPO1) (out), 33 PAD

## MountingHole_Pad M2.5
designator H?  (value not drawn)
footprint MountingHole_2.7mm_M2.5_DIN965_Pad
pins: 1

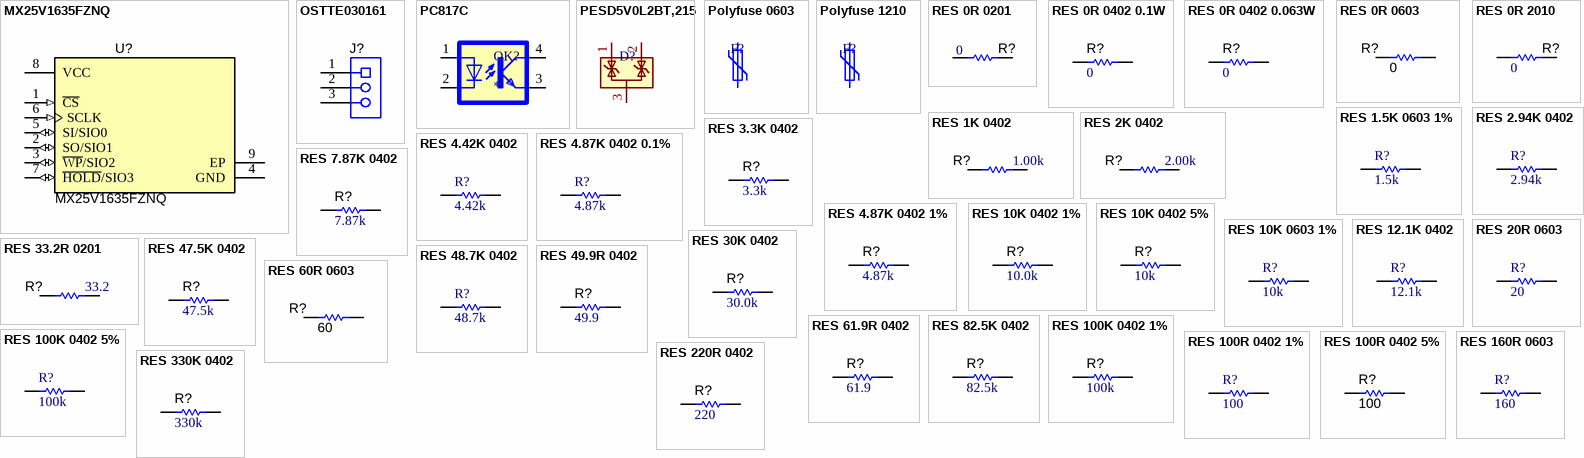
[diagram p3: symbols MX25V1635FZNQ to RES 330K 0402]

## MX25V1635FZNQ
designator U?
2.3V-3.6V, 16M-BIT [x 1/x 2/x 4] CMOS FLASH Memory, WSON-8; Manufacturer: Macronix International Co., LTD; SizeArea_mm2: 30; SizeAreaWB_mm2: 56; SizeY_mm: 5; SizeZ_mm: 0.8; SizeX_mm: 6; PartNumber: MX25V1635FZNQ; PackageReference: WSON-8; Supplier Part Number 1: 1092-1211-ND; ComponentLink1Description: Datasheet URL; MountType: SMT; ComponentLink1URL: http://www.macronix.com/Lists/Datasheet/Attachments/6724/MX25V1635F,%202.5V,%2016Mb,%20v1.4.pdf; Supplier 1: Digi-Key; RoHS: Y
footprint WSON-8L_6x5MM_EP (SMD, 8-Leads, Body 6x5mm, Pitch 1.27mm)
pins: 1 ~{CS} (in), 2 SO/SIO1 (io), 3 ~{WP}/SIO2 (io), 4 GND (power), 5 SI/SIO0 (io), 6 SCLK (in), 7 ~{HOLD}/SIO3 (io), 8 VCC (power), 9 EP

## OSTTE030161
designator J?  (value not drawn)
Terminal Block, 3.5mm, 3x1, Tin, R/A, TH; Manufacturer: On-Shore Technology; CNHeader: False; Current_A: 10A; Green_Lifecycle: Not Set; Gender: Female; Cert_CSA: Y; Green_REACh: Incomplete; Voltage_V: 125V; Row_Count: 1; Pitch_mm: 3.5; CT: True; ComponentLink1URL: http://www.on-shore.com/wp-content/uploads/2015/09/osttexx0161.pdf; Publisher: Texas Instruments; Color: Blue; RoHS: Y; MountType: TH; Green_EU RoHS-2: Incomplete; Supplier 1: Digi-Key; Green_EU RoHS: Incomplete; PackageReference: Terminal Block, 3.5mm, 3x1, TH; PinCount: 3; CompType: Terminal Block; LatestRevisionDate: 2017-07-12; PartNumber: OSTTE030161; Orientation: R/A; ComponentLink1Description: Datasheet URL; Supplier Part Number 1: ED2636-ND; ContactFinish: Tin; Cert_UL: Y
footprint On-Shore_OSTTE030161 (Terminal Block, 3.5mm, 3x1, TH)
pins: 1, 2, 3

## PC817C
designator OK?
RF Mixer IC Cellular, DCS, PCS, W-CDMA, WLAN Up Converter 50MHz ~ 400MHz 6-SuperMiniMold; MF: Renesas Electronics America Inc; MP: PC817; SnapEDA_Link: https://www.snapeda.com/parts/PC817/Renesas/view-part/?ref=snap; Package: None; Value: *; Check_prices: https://www.snapeda.com/parts/PC817/Renesas/view-part/?ref=eda
footprint SOP254P975X460-4N
pins: 1 A, 2 C, 3 EMIT, 4 COL

## PESD5V0L2BT,215
designator D?  (value not drawn)
footprint SOT-23 (SOT23, 3-Leads, Body 2.9x1.3mm, Pitch 0.95mm, Lead Span 2.5mm, IPC Medium Density)
pins: 1 K, 2 K, 3 A

## Polyfuse 0603
designator F?  (value not drawn)
footprint Fuse_0603_1608Metric
pins: 1, 2

## Polyfuse 1210
designator F?  (value not drawn)
footprint Fuse_1210_3225Metric
pins: 1, 2

## RES 0R 0201
designator R?, comment ValueDisplayed: 0  (hidden comment: CRCW02010000Z0ED)
RES, 0, 5%, 0.05 W, 0201; Manufacturer: Vishay-Dale; Power_W: 50mW; TempCo: ppm/C; Value_Code: 0000; Value: 0; EIA_Code: E24; SizeX_mm: 0.6; SizeY_mm: 0.3; SizeZ_mm: 0.26; Value2: 0.05W; SizeArea_mm2: 0.18; CompType: Resistor; AEC Qualified: N; AEC Category: Q200; RoHS: E; Value1: 5%; MountType: SMT; Supplier 1: Newark; PackageReference: 0201; Tolerance_%: 5%; Res_ohm: 0; PartNumber: CRCW02010000Z0ED; ComponentLink1Description: Datasheet link; AEC Grade: N/A; Supplier Part Number 1: 72M6743; Technology: Thick Film; ComponentLink1URL: http://www.vishay.com/docs/20052/crcw0201e3.pdf
footprint 0201 (Data from Kemet datasheet CC101_COM dated 7/28/11)
footprint 0201_Silk (Data from Kemet datasheet CC101_COM dated 7/28/11)
footprint 0201L (Data from Kemet datasheet CC101_COM dated 7/28/11)
footprint 0201M (Data from Kemet datasheet CC101_COM dated 7/28/11)
pins: 1, 2

## RES 0R 0402 0.1W
designator R?, comment ValueDisplayed: 0  (hidden comment: ERJ-2GE0R00X)
RES, 0, 5%, 0.1 W, AEC-Q200 Grade 0, 0402; Manufacturer: Panasonic; Power_W: 100mW; TempCo: 600 ppm/C; Value_Code: 0000; Value: 0; EIA_Code: E24; SizeX_mm: 1; SizeY_mm: 0.5; SizeZ_mm: 0.6; Value2: 0.1W; CompType: Resistor; AEC Qualified: Y; VDC_V: 50V; AEC Category: Q200; SizeAreaWB_mm2: 3; Supplier Part Number 2: 65T8307; Supplier 2: Newark; Supplier Part Number 3: 667-ERJ-2GE0R00X; Supplier 3: Mouser; RoHS: Y; Value1: 5%; MountType: SMT; Supplier 1: Digi-Key; PackageReference: 0402; Tolerance_%: 5%; Res_ohm: 0; SizeArea_mm2: 0.5; PartNumber: ERJ-2GE0R00X; ComponentLink1Description: Datasheet link; Supplier Part Number 1: P0.0JCT-ND; Technology: Thick Film; ComponentLink1URL: https://industrial.panasonic.com/cdbs/www-data/pdf/RDA0000/AOA0000C301.pdf; AEC Grade: 0
footprint 0402 (0402 from SM-752 data)
footprint 0402S (Based on C0402S footprint from PADS legacy)
footprint 0402L (0402 from SM-752 data)
footprint 0402M (0402 from SM-752 data)
pins: 1, 2

## RES 0R 0402 0.063W
designator R?, comment value 0  (hidden comment: Resistor)
RES, 0, 5%, 0.063 W, AEC-Q200 Grade 0, 0402; PartNumber: CRCW04020000Z0ED; Manufacturer: Vishay-Dale; Value_Code: 0000; Power_W: 63mW; Value2: 0.063W; VDC_V: 50V; TempCo: 200 ppm/C; EIA_Code: E24; AEC Category: Q200; AEC Qualified: Y; SizeArea_mm2: 0.5; SizeX_mm: 1; SizeZ_mm: 0.6; CompType: Resistor; PackageReference: 0402; RoHS: E; Res_ohm: 0; Tolerance_%: 5%; Value1: 5%; MountType: SMT; Technology: Thick Film; ComponentLink1Description: Datasheet link; ComponentLink1URL: http://www.vishay.com/docs/20035/dcrcwe3.pdf; Supplier 1: Digi-Key; Supplier Part Number 1: 541-0.0JCT-ND; Supplier 2: Newark; Supplier Part Number 2: 52K6543; Supplier 3: Mouser; Supplier Part Number 3: 71-CRCW0402-0-E3; AEC Grade: 0; SizeY_mm: 0.5; ValueDisplayed: 0
footprint 0402 (0402 from SM-752 data)
footprint 0402S (Based on C0402S footprint from PADS legacy)
footprint 0402L (0402 from SM-752 data)
footprint 0402M (0402 from SM-752 data)
pins: 1, 2

## RES 0R 0603
designator R?, comment ValueDisplayed: 0  (hidden comment: MCT06030Z0000ZP500)
RES, 0, 5%, 0.125 W, 0603; Manufacturer: Vishay/Beyschlag; Power_W: 125mW; TempCo: ppm/C; Value_Code: 0000; U/M: EA; Value: 0; EIA_Code: E24; SizeX_mm: 1.6; SizeY_mm: 0.8; SizeZ_mm: 1; Value2: 0.125W; SizeArea_mm2: 1.28; CompType: Resistor; AEC Qualified: N; AEC Category: Q200; Supplier Part Number 2: 96Y9454; Publisher: Texas Instruments; Supplier 2: Newark; Supplier Part Number 3: 594-MCT06030Z0000ZP5; Supplier 3: Mouser; Published: 2008-06-26; RoHS: Y; Value1: 5%; MountType: SMT; Supplier 1: Digi-Key; PackageReference: 0603; Tolerance_%: 5%; Res_ohm: 0; LatestRevisionDate: 2017-03-09; PartNumber: MCT06030Z0000ZP500; ComponentLink1Description: Datasheet link; AEC Grade: N/A; Supplier Part Number 1: MCT0603-0.0-ZZCT-ND; Technology: Thin Film; ComponentLink1URL: http://www.vishay.com/docs/28705/mcx0x0xpro.pdf
footprint 0603 (0603 from SM-752 data)
footprint 0603_HV (Ernesto recommended land pattern.  26 mil between pads.)
footprint 0603L (0603 from SM-752 data)
footprint 0603S
footprint 0603M (0603 from SM-752 data)
pins: 1, 2

## RES 0R 2010
designator R?, comment ValueDisplayed: 0  (hidden comment: CRCW20100000Z0EF)
RES, 0, 5%, 0.75 W, AEC-Q200 Grade 0, 2010; Manufacturer: Vishay-Dale; Power_W: 750mW; TempCo: ppm/C; Value_Code: 0000; Value: 0; EIA_Code: E24; SizeX_mm: 5; SizeY_mm: 2.5; SizeZ_mm: 1.66; Value2: 0.75W; SizeArea_mm2: 12.5; CompType: Resistor; AEC Qualified: Y; AEC Category: Q200; RoHS: E; Value1: 5%; MountType: SMT; Supplier 1: Digi-Key; PackageReference: 2010; Tolerance_%: 5%; Res_ohm: 0; PartNumber: CRCW20100000Z0EF; ComponentLink1Description: Datasheet link; AEC Grade: 0; Supplier Part Number 1: 541-0.0WCT-ND; Technology: Thick Film; ComponentLink1URL: http://www.vishay.com/docs/20035/dcrcwe3.pdf
footprint 2010 (Chip Capacitor, Body 5.08x2.54mm, IPC Medium Density)
footprint 2010L
footprint 2010M
pins: 1, 2

## RES 1.5K 0603 1%
designator R?, comment ValueDisplayed: 1.5k  (hidden comment: RES 1.5K 0603)
RES, 1.5K, 1%, 0.1 W, AEC-Q200 Grade 0, 0603; Manufacturer: Vishay-Dale; PartNumber: CRCW060320R0JNEA; Power_W: 100mW; TempCo: 200 ppm/C; Value_Code: 20R0; Value1: 5%; Value: 20; EIA_Code: E24; SizeX_mm: 1.6; SizeY_mm: 0.8; SizeZ_mm: 1; Value2: 0.1W; SizeArea_mm2: 1.28; CompType: Resistor; AEC Qualified: Y; VDC_V: 75V; AEC Category: Q200; AEC Grade: 0; Supplier Part Number 2: 59M6784; Supplier 2: Newark; Supplier Part Number 3: 71-CRCW0603J-20-E3; Supplier 3: Mouser; RoHS: E; MountType: SMT; Supplier 1: Digi-Key; PackageReference: 0603; Tolerance_%: 5%; Res_ohm: 20; ComponentLink1Description: Datasheet link; Supplier Part Number 1: 541-20GCT-ND; Technology: Thick Film; ComponentLink1URL: http://www.vishay.com/docs/20035/dcrcwe3.pdf
footprint 0603 (0603 from SM-752 data)
footprint 0603_HV (Ernesto recommended land pattern.  26 mil between pads.)
footprint 0603L (0603 from SM-752 data)
footprint 0603S
footprint 0603M (0603 from SM-752 data)
pins: 1, 2

## RES 1K 0402
designator R?, comment ValueDisplayed: 1.00k  (hidden comment: CRCW04021K00FKED)
RES, 1.00 k, 1%, 0.063 W, AEC-Q200 Grade 0, 0402; Manufacturer: Vishay-Dale; Power_W: 63mW; TempCo: 100 ppm/C; Value_Code: 1k00; Value: 1.00k; EIA_Code: E96; Res_ohm: 1k; SizeX_mm: 1; SizeY_mm: 0.5; SizeZ_mm: 0.6; Value2: 0.063W; CompType: Resistor; AEC Qualified: Y; VDC_V: 50V; AEC Category: Q200; AEC Grade: 0; Supplier Part Number 2: 52K6545; Supplier 2: Newark; Supplier Part Number 3: 71-CRCW0402-1.0K-E3; Supplier 3: Mouser; RoHS: E; Value1: 1%; MountType: SMT; Supplier 1: Digi-Key; PackageReference: 0402; Tolerance_%: 1%; SizeArea_mm2: 0.5; PartNumber: CRCW04021K00FKED; ComponentLink1Description: Datasheet link; Supplier Part Number 1: 541-1.00KLCT-ND; Technology: Thick Film; ComponentLink1URL: http://www.vishay.com/docs/20035/dcrcwe3.pdf
footprint 0402 (0402 from SM-752 data)
footprint 0402S (Based on C0402S footprint from PADS legacy)
footprint 0402L (0402 from SM-752 data)
footprint 0402M (0402 from SM-752 data)
pins: 1, 2

## RES 2.94K 0402
designator R?, comment ValueDisplayed: 2.94k  (hidden comment: CRCW04022K94FKED)
RES, 2.94 k, 1%, 0.063 W, AEC-Q200 Grade 0, 0402; Manufacturer: Vishay-Dale; Power_W: 63mW; TempCo: 100 ppm/C; Value_Code: 2k94; Value: 2.94k; EIA_Code: E96; SizeX_mm: 1; SizeY_mm: 0.5; SizeZ_mm: 0.6; Value2: 0.063W; CompType: Resistor; AEC Qualified: Y; VDC_V: 50V; AEC Category: Q200; AEC Grade: 0; ComponentLink1URL: http://www.vishay.com/docs/20035/dcrcwe3.pdf; Supplier Part Number 2: 52K6814; Supplier 2: Newark; Supplier Part Number 3: 71-CRCW0402-2.94K-E3; Supplier 3: Mouser; RoHS: E; Value1: 1%; MountType: SMT; Supplier 1: Digi-Key; PackageReference: 0402; Tolerance_%: 1%; Res_ohm: 2.94k; SizeArea_mm2: 0.5; PartNumber: CRCW04022K94FKED; ComponentLink1Description: Datasheet link; Supplier Part Number 1: 541-2.94KLCT-ND; Technology: Thick Film
footprint 0402 (0402 from SM-752 data)
footprint 0402S (Based on C0402S footprint from PADS legacy)
footprint 0402L (0402 from SM-752 data)
footprint 0402M (0402 from SM-752 data)
pins: 1, 2